# Altium schematic symbol library RT444012.Schlib: 1 symbol
Pins are listed as number, name and electrical type; pins without a type are passive.

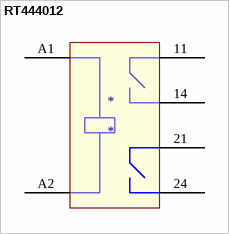
[diagram p0: symbol RT444012]

## RT444012
designator *
pins: 11, 14, 21, 24, A1, A2